# Altium schematic symbol library kmilo17pet-NSC_MiscPower.SchLib: 1552 symbols (part 19 of 43)
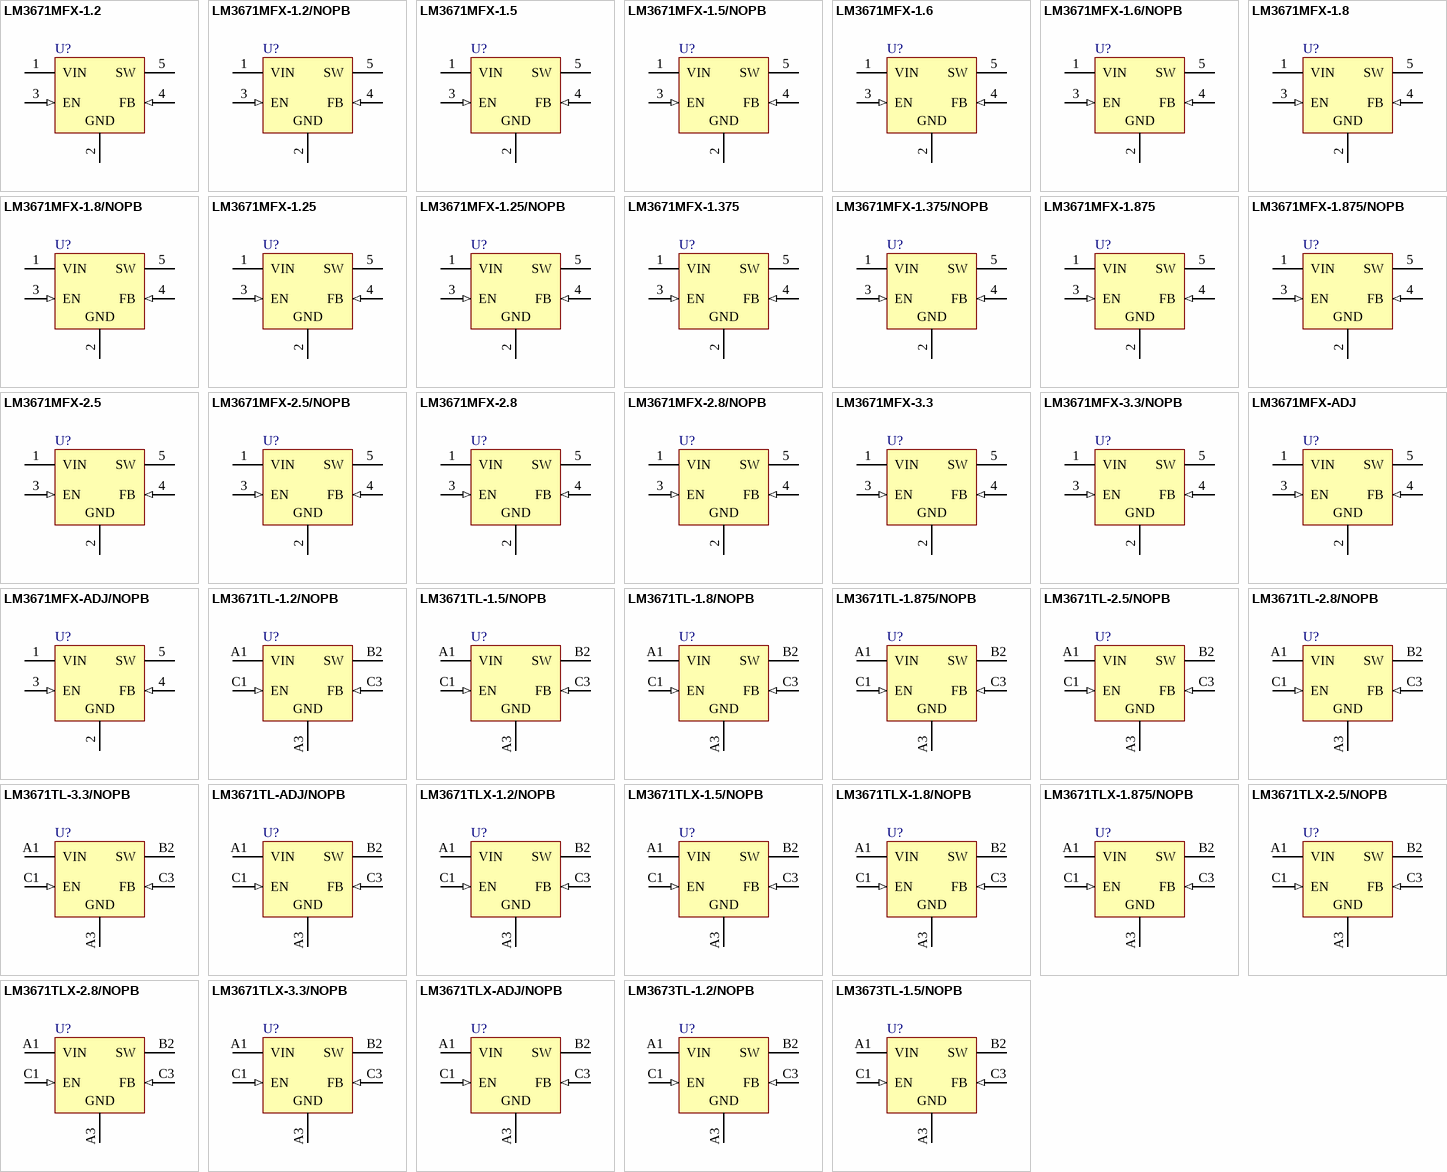
[diagram p75: symbols LM3671MFX-1.2 to LM3673TL-1.5/NOPB]

## LM3671TLX-2.5/NOPB
designator U?
2MHz, 600mA Step-Down DC-DC Converter, 5-pin Micro SMD, Pb-Free; PartNumber: LM3671TLX-2.5/NOPB; Manufacturer: National Semiconductor; PackageTopMarking: XV*I L; PowerWise: Y; CompType: MiscPower; DatasheetVersion: Nov-2007; PackageVersion: revC, Feb-2005; PackageReference: TLA05CBA; PackageDescription: Thin Micro SMD, 5 Bump (Large), 0.5mm Pitch; RoHS: Y; PinCount: 5; High-Reliability: Y; ComponentLink1Description: Manufacturer URL; ComponentLink1URL: http://www.national.com/; ComponentLink2Description: LM3671 Datasheet; ComponentLink2URL: http://www.national.com/ds/LM/LM3671.pdf; ComponentLink3Description: LM3671 Web Page; ComponentLink3URL: http://www.national.com/pf/LM/LM3671.html; ComponentLink4Description: TLA05CBA Package Page; ComponentLink4URL: http://www.national.com/packaging/folders/tla05cba.html
footprint TLA05CBA (Micro SMD, 5-Leads, Body 1.39x1.06mm, Pitch 0.5mm, NSC Recommended)
pins: A1 VIN (power), A3 GND (power), B2 SW (power), C1 EN (in), C3 FB (in)

## LM3671TLX-2.8/NOPB
designator U?
2MHz, 600mA Step-Down DC-DC Converter, 5-pin Micro SMD, Pb-Free; PartNumber: LM3671TLX-2.8/NOPB; Manufacturer: National Semiconductor; PackageTopMarking: XV*I K; PowerWise: Y; CompType: MiscPower; DatasheetVersion: Nov-2007; PackageVersion: revC, Feb-2005; PackageReference: TLA05CBA; PackageDescription: Thin Micro SMD, 5 Bump (Large), 0.5mm Pitch; RoHS: Y; PinCount: 5; High-Reliability: Y; ComponentLink1Description: Manufacturer URL; ComponentLink1URL: http://www.national.com/; ComponentLink2Description: LM3671 Datasheet; ComponentLink2URL: http://www.national.com/ds/LM/LM3671.pdf; ComponentLink3Description: LM3671 Web Page; ComponentLink3URL: http://www.national.com/pf/LM/LM3671.html; ComponentLink4Description: TLA05CBA Package Page; ComponentLink4URL: http://www.national.com/packaging/folders/tla05cba.html
footprint TLA05CBA (Micro SMD, 5-Leads, Body 1.39x1.06mm, Pitch 0.5mm, NSC Recommended)
pins: A1 VIN (power), A3 GND (power), B2 SW (power), C1 EN (in), C3 FB (in)

## LM3671TLX-3.3/NOPB
designator U?
2MHz, 600mA Step-Down DC-DC Converter, 5-pin Micro SMD, Pb-Free; PartNumber: LM3671TLX-3.3/NOPB; Manufacturer: National Semiconductor; PackageTopMarking: XV*I J; PowerWise: Y; CompType: MiscPower; DatasheetVersion: Nov-2007; PackageVersion: revC, Feb-2005; PackageReference: TLA05CBA; PackageDescription: Thin Micro SMD, 5 Bump (Large), 0.5mm Pitch; RoHS: Y; PinCount: 5; High-Reliability: Y; ComponentLink1Description: Manufacturer URL; ComponentLink1URL: http://www.national.com/; ComponentLink2Description: LM3671 Datasheet; ComponentLink2URL: http://www.national.com/ds/LM/LM3671.pdf; ComponentLink3Description: LM3671 Web Page; ComponentLink3URL: http://www.national.com/pf/LM/LM3671.html; ComponentLink4Description: TLA05CBA Package Page; ComponentLink4URL: http://www.national.com/packaging/folders/tla05cba.html
footprint TLA05CBA (Micro SMD, 5-Leads, Body 1.39x1.06mm, Pitch 0.5mm, NSC Recommended)
pins: A1 VIN (power), A3 GND (power), B2 SW (power), C1 EN (in), C3 FB (in)

## LM3671TLX-ADJ/NOPB
designator U?
2MHz, 600mA Step-Down DC-DC Converter, 5-pin Micro SMD, Pb-Free; PartNumber: LM3671TLX-ADJ/NOPB; Manufacturer: National Semiconductor; PackageTopMarking: XV*I E; PowerWise: Y; CompType: MiscPower; DatasheetVersion: Nov-2007; PackageVersion: revC, Feb-2005; PackageReference: TLA05CBA; PackageDescription: Thin Micro SMD, 5 Bump (Large), 0.5mm Pitch; RoHS: Y; PinCount: 5; High-Reliability: Y; ComponentLink1Description: Manufacturer URL; ComponentLink1URL: http://www.national.com/; ComponentLink2Description: LM3671 Datasheet; ComponentLink2URL: http://www.national.com/ds/LM/LM3671.pdf; ComponentLink3Description: LM3671 Web Page; ComponentLink3URL: http://www.national.com/pf/LM/LM3671.html; ComponentLink4Description: TLA05CBA Package Page; ComponentLink4URL: http://www.national.com/packaging/folders/tla05cba.html
footprint TLA05CBA (Micro SMD, 5-Leads, Body 1.39x1.06mm, Pitch 0.5mm, NSC Recommended)
pins: A1 VIN (power), A3 GND (power), B2 SW (power), C1 EN (in), C3 FB (in)

## LM3673TL-1.2/NOPB
designator U?
2MHz, 350mA Step-Down DC-DC Converter, 5-pin Micro SMD, Pb-Free; PartNumber: LM3673TL-1.2/NOPB; Manufacturer: National Semiconductor; PackageTopMarking: XV*I 1; PowerWise: Y; CompType: MiscPower; DatasheetVersion: Nov-2006; PackageVersion: revC, Feb-2005; PackageReference: TLA05CBA; PackageDescription: Thin Micro SMD, 5 Bump (Large), 0.5mm Pitch; RoHS: Y; PinCount: 5; High-Reliability: Y; ComponentLink1Description: Manufacturer URL; ComponentLink1URL: http://www.national.com/; ComponentLink2Description: LM3673 Datasheet; ComponentLink2URL: http://www.national.com/ds/LM/LM3673.pdf; ComponentLink3Description: LM3673 Web Page; ComponentLink3URL: http://www.national.com/pf/LM/LM3673.html; ComponentLink4Description: TLA05CBA Package Page; ComponentLink4URL: http://www.national.com/packaging/folders/tla05cba.html
footprint TLA05CBA (Micro SMD, 5-Leads, Body 1.39x1.06mm, Pitch 0.5mm, NSC Recommended)
pins: A1 VIN (power), A3 GND (power), B2 SW (power), C1 EN (in), C3 FB (in)

## LM3673TL-1.5/NOPB
designator U?
2MHz, 350mA Step-Down DC-DC Converter, 5-pin Micro SMD, Pb-Free; PartNumber: LM3673TL-1.5/NOPB; Manufacturer: National Semiconductor; PackageTopMarking: XV*I H; PowerWise: Y; CompType: MiscPower; DatasheetVersion: Nov-2006; PackageVersion: revC, Feb-2005; PackageReference: TLA05CBA; PackageDescription: Thin Micro SMD, 5 Bump (Large), 0.5mm Pitch; RoHS: Y; PinCount: 5; High-Reliability: Y; ComponentLink1Description: Manufacturer URL; ComponentLink1URL: http://www.national.com/; ComponentLink2Description: LM3673 Datasheet; ComponentLink2URL: http://www.national.com/ds/LM/LM3673.pdf; ComponentLink3Description: LM3673 Web Page; ComponentLink3URL: http://www.national.com/pf/LM/LM3673.html; ComponentLink4Description: TLA05CBA Package Page; ComponentLink4URL: http://www.national.com/packaging/folders/tla05cba.html
footprint TLA05CBA (Micro SMD, 5-Leads, Body 1.39x1.06mm, Pitch 0.5mm, NSC Recommended)
pins: A1 VIN (power), A3 GND (power), B2 SW (power), C1 EN (in), C3 FB (in)

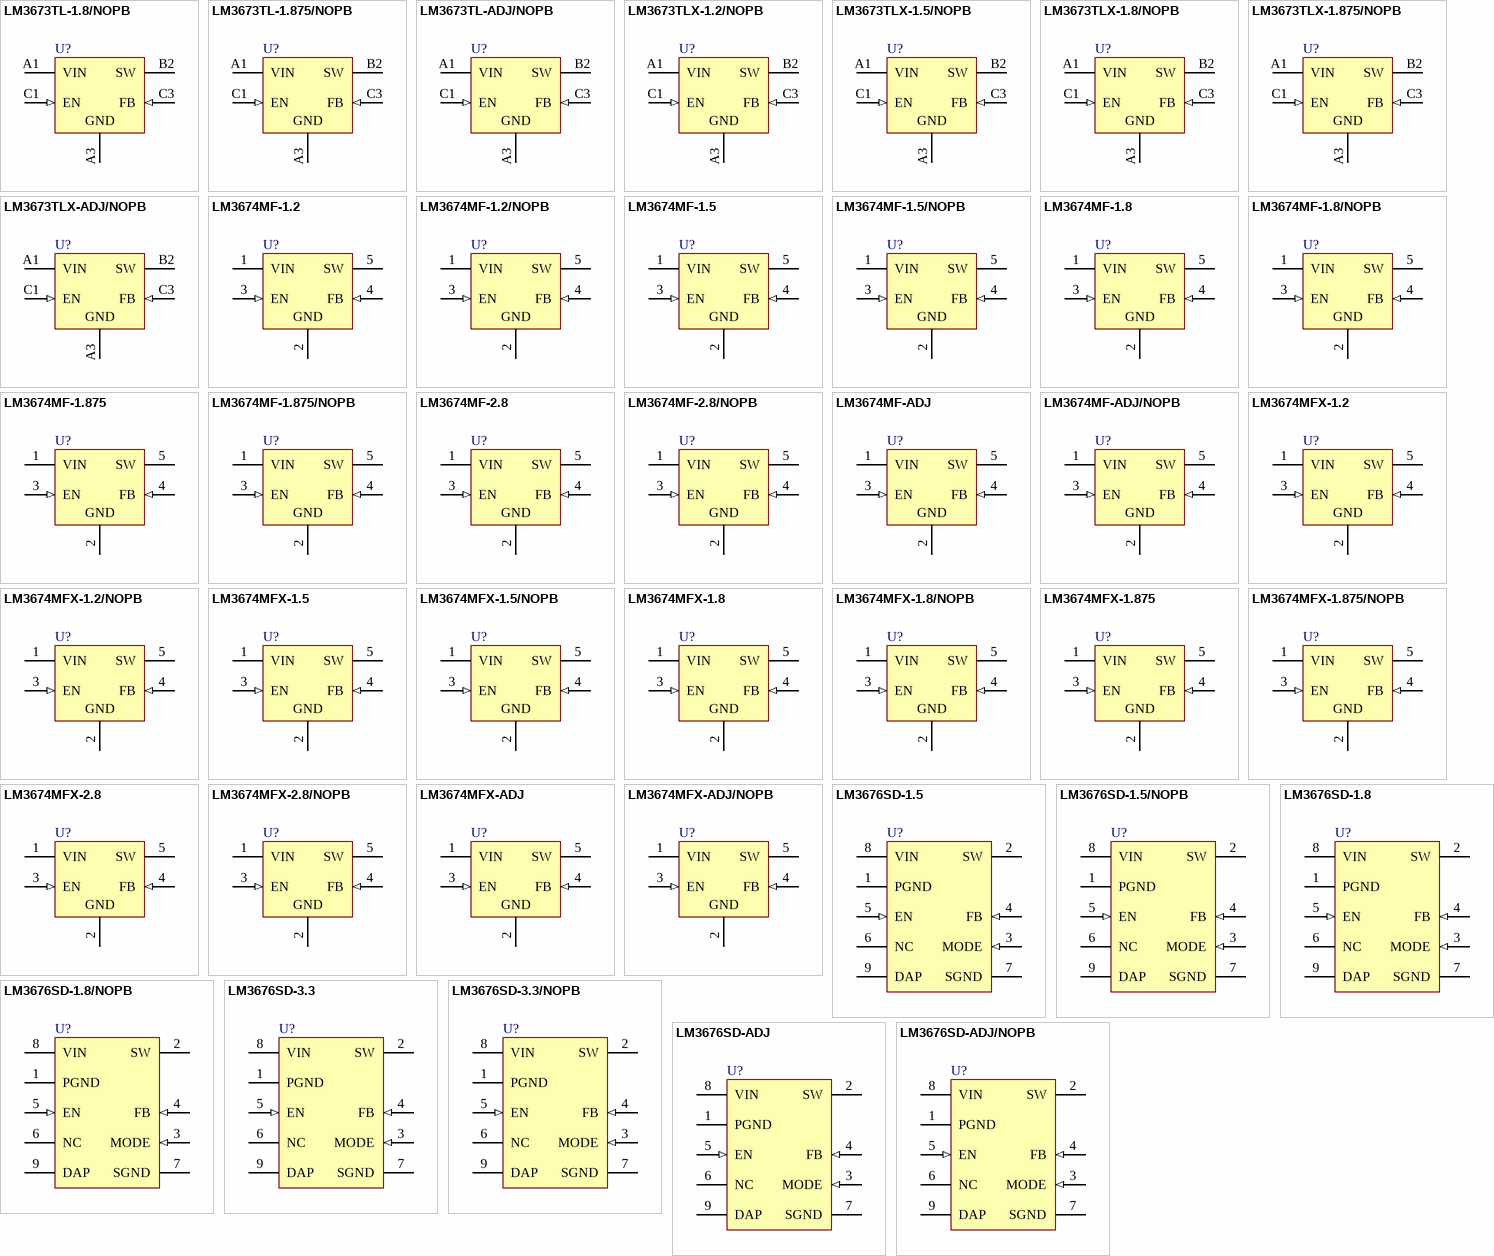
[diagram p21: symbols LM3673TL-1.8/NOPB to LM3676SD-ADJ/NOPB]

## LM3673TL-1.8/NOPB
designator U?
2MHz, 350mA Step-Down DC-DC Converter, 5-pin Micro SMD, Pb-Free; PartNumber: LM3673TL-1.8/NOPB; Manufacturer: National Semiconductor; PackageTopMarking: XV*I F; PowerWise: Y; CompType: MiscPower; DatasheetVersion: Nov-2006; PackageVersion: revC, Feb-2005; PackageReference: TLA05CBA; PackageDescription: Thin Micro SMD, 5 Bump (Large), 0.5mm Pitch; RoHS: Y; PinCount: 5; High-Reliability: Y; ComponentLink1Description: Manufacturer URL; ComponentLink1URL: http://www.national.com/; ComponentLink2Description: LM3673 Datasheet; ComponentLink2URL: http://www.national.com/ds/LM/LM3673.pdf; ComponentLink3Description: LM3673 Web Page; ComponentLink3URL: http://www.national.com/pf/LM/LM3673.html; ComponentLink4Description: TLA05CBA Package Page; ComponentLink4URL: http://www.national.com/packaging/folders/tla05cba.html
footprint TLA05CBA (Micro SMD, 5-Leads, Body 1.39x1.06mm, Pitch 0.5mm, NSC Recommended)
pins: A1 VIN (power), A3 GND (power), B2 SW (power), C1 EN (in), C3 FB (in)

## LM3673TL-1.875/NOPB
designator U?
2MHz, 350mA Step-Down DC-DC Converter, 5-pin Micro SMD, Pb-Free; PartNumber: LM3673TL-1.875/NOPB; Manufacturer: National Semiconductor; PackageTopMarking: XV*I 2; PowerWise: Y; CompType: MiscPower; DatasheetVersion: Nov-2006; PackageVersion: revC, Feb-2005; PackageReference: TLA05CBA; PackageDescription: Thin Micro SMD, 5 Bump (Large), 0.5mm Pitch; RoHS: Y; PinCount: 5; High-Reliability: Y; ComponentLink1Description: Manufacturer URL; ComponentLink1URL: http://www.national.com/; ComponentLink2Description: LM3673 Datasheet; ComponentLink2URL: http://www.national.com/ds/LM/LM3673.pdf; ComponentLink3Description: LM3673 Web Page; ComponentLink3URL: http://www.national.com/pf/LM/LM3673.html; ComponentLink4Description: TLA05CBA Package Page; ComponentLink4URL: http://www.national.com/packaging/folders/tla05cba.html
footprint TLA05CBA (Micro SMD, 5-Leads, Body 1.39x1.06mm, Pitch 0.5mm, NSC Recommended)
pins: A1 VIN (power), A3 GND (power), B2 SW (power), C1 EN (in), C3 FB (in)

## LM3673TL-ADJ/NOPB
designator U?
2MHz, 350mA Step-Down DC-DC Converter, 5-pin Micro SMD, Pb-Free; PartNumber: LM3673TL-ADJ/NOPB; Manufacturer: National Semiconductor; PackageTopMarking: XV*I R; PowerWise: Y; CompType: MiscPower; DatasheetVersion: Nov-2006; PackageVersion: revC, Feb-2005; PackageReference: TLA05CBA; PackageDescription: Thin Micro SMD, 5 Bump (Large), 0.5mm Pitch; RoHS: Y; PinCount: 5; High-Reliability: Y; ComponentLink1Description: Manufacturer URL; ComponentLink1URL: http://www.national.com/; ComponentLink2Description: LM3673 Datasheet; ComponentLink2URL: http://www.national.com/ds/LM/LM3673.pdf; ComponentLink3Description: LM3673 Web Page; ComponentLink3URL: http://www.national.com/pf/LM/LM3673.html; ComponentLink4Description: TLA05CBA Package Page; ComponentLink4URL: http://www.national.com/packaging/folders/tla05cba.html
footprint TLA05CBA (Micro SMD, 5-Leads, Body 1.39x1.06mm, Pitch 0.5mm, NSC Recommended)
pins: A1 VIN (power), A3 GND (power), B2 SW (power), C1 EN (in), C3 FB (in)

## LM3673TLX-1.2/NOPB
designator U?
2MHz, 350mA Step-Down DC-DC Converter, 5-pin Micro SMD, Pb-Free; PartNumber: LM3673TLX-1.2/NOPB; Manufacturer: National Semiconductor; PackageTopMarking: XV*I 1; PowerWise: Y; CompType: MiscPower; DatasheetVersion: Nov-2006; PackageVersion: revC, Feb-2005; PackageReference: TLA05CBA; PackageDescription: Thin Micro SMD, 5 Bump (Large), 0.5mm Pitch; RoHS: Y; PinCount: 5; High-Reliability: Y; ComponentLink1Description: Manufacturer URL; ComponentLink1URL: http://www.national.com/; ComponentLink2Description: LM3673 Datasheet; ComponentLink2URL: http://www.national.com/ds/LM/LM3673.pdf; ComponentLink3Description: LM3673 Web Page; ComponentLink3URL: http://www.national.com/pf/LM/LM3673.html; ComponentLink4Description: TLA05CBA Package Page; ComponentLink4URL: http://www.national.com/packaging/folders/tla05cba.html
footprint TLA05CBA (Micro SMD, 5-Leads, Body 1.39x1.06mm, Pitch 0.5mm, NSC Recommended)
pins: A1 VIN (power), A3 GND (power), B2 SW (power), C1 EN (in), C3 FB (in)

## LM3673TLX-1.5/NOPB
designator U?
2MHz, 350mA Step-Down DC-DC Converter, 5-pin Micro SMD, Pb-Free; PartNumber: LM3673TLX-1.5/NOPB; Manufacturer: National Semiconductor; PackageTopMarking: XV*I H; PowerWise: Y; CompType: MiscPower; DatasheetVersion: Nov-2006; PackageVersion: revC, Feb-2005; PackageReference: TLA05CBA; PackageDescription: Thin Micro SMD, 5 Bump (Large), 0.5mm Pitch; RoHS: Y; PinCount: 5; High-Reliability: Y; ComponentLink1Description: Manufacturer URL; ComponentLink1URL: http://www.national.com/; ComponentLink2Description: LM3673 Datasheet; ComponentLink2URL: http://www.national.com/ds/LM/LM3673.pdf; ComponentLink3Description: LM3673 Web Page; ComponentLink3URL: http://www.national.com/pf/LM/LM3673.html; ComponentLink4Description: TLA05CBA Package Page; ComponentLink4URL: http://www.national.com/packaging/folders/tla05cba.html
footprint TLA05CBA (Micro SMD, 5-Leads, Body 1.39x1.06mm, Pitch 0.5mm, NSC Recommended)
pins: A1 VIN (power), A3 GND (power), B2 SW (power), C1 EN (in), C3 FB (in)

## LM3673TLX-1.8/NOPB
designator U?
2MHz, 350mA Step-Down DC-DC Converter, 5-pin Micro SMD, Pb-Free; PartNumber: LM3673TLX-1.8/NOPB; Manufacturer: National Semiconductor; PackageTopMarking: XV*I F; PowerWise: Y; CompType: MiscPower; DatasheetVersion: Nov-2006; PackageVersion: revC, Feb-2005; PackageReference: TLA05CBA; PackageDescription: Thin Micro SMD, 5 Bump (Large), 0.5mm Pitch; RoHS: Y; PinCount: 5; High-Reliability: Y; ComponentLink1Description: Manufacturer URL; ComponentLink1URL: http://www.national.com/; ComponentLink2Description: LM3673 Datasheet; ComponentLink2URL: http://www.national.com/ds/LM/LM3673.pdf; ComponentLink3Description: LM3673 Web Page; ComponentLink3URL: http://www.national.com/pf/LM/LM3673.html; ComponentLink4Description: TLA05CBA Package Page; ComponentLink4URL: http://www.national.com/packaging/folders/tla05cba.html
footprint TLA05CBA (Micro SMD, 5-Leads, Body 1.39x1.06mm, Pitch 0.5mm, NSC Recommended)
pins: A1 VIN (power), A3 GND (power), B2 SW (power), C1 EN (in), C3 FB (in)

## LM3673TLX-1.875/NOPB
designator U?
2MHz, 350mA Step-Down DC-DC Converter, 5-pin Micro SMD, Pb-Free; PartNumber: LM3673TLX-1.875/NOPB; Manufacturer: National Semiconductor; PackageTopMarking: XV*I 2; PowerWise: Y; CompType: MiscPower; DatasheetVersion: Nov-2006; PackageVersion: revC, Feb-2005; PackageReference: TLA05CBA; PackageDescription: Thin Micro SMD, 5 Bump (Large), 0.5mm Pitch; RoHS: Y; PinCount: 5; High-Reliability: Y; ComponentLink1Description: Manufacturer URL; ComponentLink1URL: http://www.national.com/; ComponentLink2Description: LM3673 Datasheet; ComponentLink2URL: http://www.national.com/ds/LM/LM3673.pdf; ComponentLink3Description: LM3673 Web Page; ComponentLink3URL: http://www.national.com/pf/LM/LM3673.html; ComponentLink4Description: TLA05CBA Package Page; ComponentLink4URL: http://www.national.com/packaging/folders/tla05cba.html
footprint TLA05CBA (Micro SMD, 5-Leads, Body 1.39x1.06mm, Pitch 0.5mm, NSC Recommended)
pins: A1 VIN (power), A3 GND (power), B2 SW (power), C1 EN (in), C3 FB (in)

## LM3673TLX-ADJ/NOPB
designator U?
2MHz, 350mA Step-Down DC-DC Converter, 5-pin Micro SMD, Pb-Free; PartNumber: LM3673TLX-ADJ/NOPB; Manufacturer: National Semiconductor; PackageTopMarking: XV*I R; PowerWise: Y; CompType: MiscPower; DatasheetVersion: Nov-2006; PackageVersion: revC, Feb-2005; PackageReference: TLA05CBA; PackageDescription: Thin Micro SMD, 5 Bump (Large), 0.5mm Pitch; RoHS: Y; PinCount: 5; High-Reliability: Y; ComponentLink1Description: Manufacturer URL; ComponentLink1URL: http://www.national.com/; ComponentLink2Description: LM3673 Datasheet; ComponentLink2URL: http://www.national.com/ds/LM/LM3673.pdf; ComponentLink3Description: LM3673 Web Page; ComponentLink3URL: http://www.national.com/pf/LM/LM3673.html; ComponentLink4Description: TLA05CBA Package Page; ComponentLink4URL: http://www.national.com/packaging/folders/tla05cba.html
footprint TLA05CBA (Micro SMD, 5-Leads, Body 1.39x1.06mm, Pitch 0.5mm, NSC Recommended)
pins: A1 VIN (power), A3 GND (power), B2 SW (power), C1 EN (in), C3 FB (in)

## LM3674MF-1.2
designator U?
2MHz, 600mA Step-Down DC-DC Converter, 5-pin SOT-23; PartNumber: LM3674MF-1.2; Manufacturer: National Semiconductor; PackageTopMarking: SLRB*XTT; PowerWise: Y; CompType: MiscPower; DatasheetVersion: Sep-2006; PackageVersion: revD, Aug-2008; PackageReference: MF05A; PackageDescription: Molded SOT-23, .115 x .063 x .040 in Body, 5 Lead, .0375 in Pitch; RoHS: N; PinCount: 5; High-Reliability: Y; ComponentLink1Description: Manufacturer URL; ComponentLink1URL: http://www.national.com/; ComponentLink2Description: LM3674 Datasheet; ComponentLink2URL: http://www.national.com/ds/LM/LM3674.pdf; ComponentLink3Description: LM3674 Web Page; ComponentLink3URL: http://www.national.com/pf/LM/LM3674.html; ComponentLink4Description: MF05A Package Page; ComponentLink4URL: http://www.national.com/packaging/folders/mf05a.html
footprint MF05A_N (SOT23, 5-Leads, Body 2.9x1.6mm, Pitch 0.95mm, Lead Span 2.8mm, IPC Medium Density)
footprint MF05A_L (SOT23, 5-Leads, Body 2.9x1.6mm, Pitch 0.95mm, Lead Span 2.8mm, IPC High Density)
footprint MF05A_M (SOT23, 5-Leads, Body 2.9x1.6mm, Pitch 0.95mm, Lead Span 2.8mm, IPC Low Density)
pins: 1 VIN (power), 2 GND (power), 3 EN (in), 4 FB (in), 5 SW (power)

## LM3674MF-1.2/NOPB
designator U?
2MHz, 600mA Step-Down DC-DC Converter, 5-pin SOT-23, Pb-Free; PartNumber: LM3674MF-1.2/NOPB; Manufacturer: National Semiconductor; PackageTopMarking: SLRB*XTT; PowerWise: Y; CompType: MiscPower; DatasheetVersion: Sep-2006; PackageVersion: revD, Aug-2008; PackageReference: MF05A; PackageDescription: Molded SOT-23, .115 x .063 x .040 in Body, 5 Lead, .0375 in Pitch; RoHS: Y; PinCount: 5; High-Reliability: Y; ComponentLink1Description: Manufacturer URL; ComponentLink1URL: http://www.national.com/; ComponentLink2Description: LM3674 Datasheet; ComponentLink2URL: http://www.national.com/ds/LM/LM3674.pdf; ComponentLink3Description: LM3674 Web Page; ComponentLink3URL: http://www.national.com/pf/LM/LM3674.html; ComponentLink4Description: MF05A Package Page; ComponentLink4URL: http://www.national.com/packaging/folders/mf05a.html
footprint MF05A_N (SOT23, 5-Leads, Body 2.9x1.6mm, Pitch 0.95mm, Lead Span 2.8mm, IPC Medium Density)
footprint MF05A_L (SOT23, 5-Leads, Body 2.9x1.6mm, Pitch 0.95mm, Lead Span 2.8mm, IPC High Density)
footprint MF05A_M (SOT23, 5-Leads, Body 2.9x1.6mm, Pitch 0.95mm, Lead Span 2.8mm, IPC Low Density)
pins: 1 VIN (power), 2 GND (power), 3 EN (in), 4 FB (in), 5 SW (power)

## LM3674MF-1.5
designator U?
2MHz, 600mA Step-Down DC-DC Converter, 5-pin SOT-23; PartNumber: LM3674MF-1.5; Manufacturer: National Semiconductor; PackageTopMarking: SLSB*XTT; PowerWise: Y; CompType: MiscPower; DatasheetVersion: Sep-2006; PackageVersion: revD, Aug-2008; PackageReference: MF05A; PackageDescription: Molded SOT-23, .115 x .063 x .040 in Body, 5 Lead, .0375 in Pitch; RoHS: N; PinCount: 5; High-Reliability: Y; ComponentLink1Description: Manufacturer URL; ComponentLink1URL: http://www.national.com/; ComponentLink2Description: LM3674 Datasheet; ComponentLink2URL: http://www.national.com/ds/LM/LM3674.pdf; ComponentLink3Description: LM3674 Web Page; ComponentLink3URL: http://www.national.com/pf/LM/LM3674.html; ComponentLink4Description: MF05A Package Page; ComponentLink4URL: http://www.national.com/packaging/folders/mf05a.html
footprint MF05A_N (SOT23, 5-Leads, Body 2.9x1.6mm, Pitch 0.95mm, Lead Span 2.8mm, IPC Medium Density)
footprint MF05A_L (SOT23, 5-Leads, Body 2.9x1.6mm, Pitch 0.95mm, Lead Span 2.8mm, IPC High Density)
footprint MF05A_M (SOT23, 5-Leads, Body 2.9x1.6mm, Pitch 0.95mm, Lead Span 2.8mm, IPC Low Density)
pins: 1 VIN (power), 2 GND (power), 3 EN (in), 4 FB (in), 5 SW (power)

## LM3674MF-1.5/NOPB
designator U?
2MHz, 600mA Step-Down DC-DC Converter, 5-pin SOT-23, Pb-Free; PartNumber: LM3674MF-1.5/NOPB; Manufacturer: National Semiconductor; PackageTopMarking: SLSB*XTT; PowerWise: Y; CompType: MiscPower; DatasheetVersion: Sep-2006; PackageVersion: revD, Aug-2008; PackageReference: MF05A; PackageDescription: Molded SOT-23, .115 x .063 x .040 in Body, 5 Lead, .0375 in Pitch; RoHS: Y; PinCount: 5; High-Reliability: Y; ComponentLink1Description: Manufacturer URL; ComponentLink1URL: http://www.national.com/; ComponentLink2Description: LM3674 Datasheet; ComponentLink2URL: http://www.national.com/ds/LM/LM3674.pdf; ComponentLink3Description: LM3674 Web Page; ComponentLink3URL: http://www.national.com/pf/LM/LM3674.html; ComponentLink4Description: MF05A Package Page; ComponentLink4URL: http://www.national.com/packaging/folders/mf05a.html
footprint MF05A_N (SOT23, 5-Leads, Body 2.9x1.6mm, Pitch 0.95mm, Lead Span 2.8mm, IPC Medium Density)
footprint MF05A_L (SOT23, 5-Leads, Body 2.9x1.6mm, Pitch 0.95mm, Lead Span 2.8mm, IPC High Density)
footprint MF05A_M (SOT23, 5-Leads, Body 2.9x1.6mm, Pitch 0.95mm, Lead Span 2.8mm, IPC Low Density)
pins: 1 VIN (power), 2 GND (power), 3 EN (in), 4 FB (in), 5 SW (power)

## LM3674MF-1.8
designator U?
2MHz, 600mA Step-Down DC-DC Converter, 5-pin SOT-23; PartNumber: LM3674MF-1.8; Manufacturer: National Semiconductor; PackageTopMarking: SLHB*XTT; PowerWise: Y; CompType: MiscPower; DatasheetVersion: Sep-2006; PackageVersion: revD, Aug-2008; PackageReference: MF05A; PackageDescription: Molded SOT-23, .115 x .063 x .040 in Body, 5 Lead, .0375 in Pitch; RoHS: N; PinCount: 5; High-Reliability: Y; ComponentLink1Description: Manufacturer URL; ComponentLink1URL: http://www.national.com/; ComponentLink2Description: LM3674 Datasheet; ComponentLink2URL: http://www.national.com/ds/LM/LM3674.pdf; ComponentLink3Description: LM3674 Web Page; ComponentLink3URL: http://www.national.com/pf/LM/LM3674.html; ComponentLink4Description: MF05A Package Page; ComponentLink4URL: http://www.national.com/packaging/folders/mf05a.html
footprint MF05A_N (SOT23, 5-Leads, Body 2.9x1.6mm, Pitch 0.95mm, Lead Span 2.8mm, IPC Medium Density)
footprint MF05A_L (SOT23, 5-Leads, Body 2.9x1.6mm, Pitch 0.95mm, Lead Span 2.8mm, IPC High Density)
footprint MF05A_M (SOT23, 5-Leads, Body 2.9x1.6mm, Pitch 0.95mm, Lead Span 2.8mm, IPC Low Density)
pins: 1 VIN (power), 2 GND (power), 3 EN (in), 4 FB (in), 5 SW (power)

## LM3674MF-1.8/NOPB
designator U?
2MHz, 600mA Step-Down DC-DC Converter, 5-pin SOT-23, Pb-Free; PartNumber: LM3674MF-1.8/NOPB; Manufacturer: National Semiconductor; PackageTopMarking: SLHB*XTT; PowerWise: Y; CompType: MiscPower; DatasheetVersion: Sep-2006; PackageVersion: revD, Aug-2008; PackageReference: MF05A; PackageDescription: Molded SOT-23, .115 x .063 x .040 in Body, 5 Lead, .0375 in Pitch; RoHS: Y; PinCount: 5; High-Reliability: Y; ComponentLink1Description: Manufacturer URL; ComponentLink1URL: http://www.national.com/; ComponentLink2Description: LM3674 Datasheet; ComponentLink2URL: http://www.national.com/ds/LM/LM3674.pdf; ComponentLink3Description: LM3674 Web Page; ComponentLink3URL: http://www.national.com/pf/LM/LM3674.html; ComponentLink4Description: MF05A Package Page; ComponentLink4URL: http://www.national.com/packaging/folders/mf05a.html
footprint MF05A_N (SOT23, 5-Leads, Body 2.9x1.6mm, Pitch 0.95mm, Lead Span 2.8mm, IPC Medium Density)
footprint MF05A_L (SOT23, 5-Leads, Body 2.9x1.6mm, Pitch 0.95mm, Lead Span 2.8mm, IPC High Density)
footprint MF05A_M (SOT23, 5-Leads, Body 2.9x1.6mm, Pitch 0.95mm, Lead Span 2.8mm, IPC Low Density)
pins: 1 VIN (power), 2 GND (power), 3 EN (in), 4 FB (in), 5 SW (power)

## LM3674MF-1.875
designator U?
2MHz, 600mA Step-Down DC-DC Converter, 5-pin SOT-23; PartNumber: LM3674MF-1.875; Manufacturer: National Semiconductor; PackageTopMarking: SNNB*XTT; PowerWise: Y; CompType: MiscPower; DatasheetVersion: Sep-2006; PackageVersion: revD, Aug-2008; PackageReference: MF05A; PackageDescription: Molded SOT-23, .115 x .063 x .040 in Body, 5 Lead, .0375 in Pitch; RoHS: N; PinCount: 5; High-Reliability: Y; ComponentLink1Description: Manufacturer URL; ComponentLink1URL: http://www.national.com/; ComponentLink2Description: LM3674 Datasheet; ComponentLink2URL: http://www.national.com/ds/LM/LM3674.pdf; ComponentLink3Description: LM3674 Web Page; ComponentLink3URL: http://www.national.com/pf/LM/LM3674.html; ComponentLink4Description: MF05A Package Page; ComponentLink4URL: http://www.national.com/packaging/folders/mf05a.html
footprint MF05A_N (SOT23, 5-Leads, Body 2.9x1.6mm, Pitch 0.95mm, Lead Span 2.8mm, IPC Medium Density)
footprint MF05A_L (SOT23, 5-Leads, Body 2.9x1.6mm, Pitch 0.95mm, Lead Span 2.8mm, IPC High Density)
footprint MF05A_M (SOT23, 5-Leads, Body 2.9x1.6mm, Pitch 0.95mm, Lead Span 2.8mm, IPC Low Density)
pins: 1 VIN (power), 2 GND (power), 3 EN (in), 4 FB (in), 5 SW (power)

## LM3674MF-1.875/NOPB
designator U?
2MHz, 600mA Step-Down DC-DC Converter, 5-pin SOT-23, Pb-Free; PartNumber: LM3674MF-1.875/NOPB; Manufacturer: National Semiconductor; PackageTopMarking: SNNB*XTT; PowerWise: Y; CompType: MiscPower; DatasheetVersion: Sep-2006; PackageVersion: revD, Aug-2008; PackageReference: MF05A; PackageDescription: Molded SOT-23, .115 x .063 x .040 in Body, 5 Lead, .0375 in Pitch; RoHS: Y; PinCount: 5; High-Reliability: Y; ComponentLink1Description: Manufacturer URL; ComponentLink1URL: http://www.national.com/; ComponentLink2Description: LM3674 Datasheet; ComponentLink2URL: http://www.national.com/ds/LM/LM3674.pdf; ComponentLink3Description: LM3674 Web Page; ComponentLink3URL: http://www.national.com/pf/LM/LM3674.html; ComponentLink4Description: MF05A Package Page; ComponentLink4URL: http://www.national.com/packaging/folders/mf05a.html
footprint MF05A_N (SOT23, 5-Leads, Body 2.9x1.6mm, Pitch 0.95mm, Lead Span 2.8mm, IPC Medium Density)
footprint MF05A_L (SOT23, 5-Leads, Body 2.9x1.6mm, Pitch 0.95mm, Lead Span 2.8mm, IPC High Density)
footprint MF05A_M (SOT23, 5-Leads, Body 2.9x1.6mm, Pitch 0.95mm, Lead Span 2.8mm, IPC Low Density)
pins: 1 VIN (power), 2 GND (power), 3 EN (in), 4 FB (in), 5 SW (power)

## LM3674MF-2.8
designator U?
2MHz, 600mA Step-Down DC-DC Converter, 5-pin SOT-23; PartNumber: LM3674MF-2.8; Manufacturer: National Semiconductor; PackageTopMarking: SLZB*XTT; PowerWise: Y; CompType: MiscPower; DatasheetVersion: Sep-2006; PackageVersion: revD, Aug-2008; PackageReference: MF05A; PackageDescription: Molded SOT-23, .115 x .063 x .040 in Body, 5 Lead, .0375 in Pitch; RoHS: N; PinCount: 5; High-Reliability: Y; ComponentLink1Description: Manufacturer URL; ComponentLink1URL: http://www.national.com/; ComponentLink2Description: LM3674 Datasheet; ComponentLink2URL: http://www.national.com/ds/LM/LM3674.pdf; ComponentLink3Description: LM3674 Web Page; ComponentLink3URL: http://www.national.com/pf/LM/LM3674.html; ComponentLink4Description: MF05A Package Page; ComponentLink4URL: http://www.national.com/packaging/folders/mf05a.html
footprint MF05A_N (SOT23, 5-Leads, Body 2.9x1.6mm, Pitch 0.95mm, Lead Span 2.8mm, IPC Medium Density)
footprint MF05A_L (SOT23, 5-Leads, Body 2.9x1.6mm, Pitch 0.95mm, Lead Span 2.8mm, IPC High Density)
footprint MF05A_M (SOT23, 5-Leads, Body 2.9x1.6mm, Pitch 0.95mm, Lead Span 2.8mm, IPC Low Density)
pins: 1 VIN (power), 2 GND (power), 3 EN (in), 4 FB (in), 5 SW (power)

## LM3674MF-2.8/NOPB
designator U?
2MHz, 600mA Step-Down DC-DC Converter, 5-pin SOT-23, Pb-Free; PartNumber: LM3674MF-2.8/NOPB; Manufacturer: National Semiconductor; PackageTopMarking: SLZB*XTT; PowerWise: Y; CompType: MiscPower; DatasheetVersion: Sep-2006; PackageVersion: revD, Aug-2008; PackageReference: MF05A; PackageDescription: Molded SOT-23, .115 x .063 x .040 in Body, 5 Lead, .0375 in Pitch; RoHS: Y; PinCount: 5; High-Reliability: Y; ComponentLink1Description: Manufacturer URL; ComponentLink1URL: http://www.national.com/; ComponentLink2Description: LM3674 Datasheet; ComponentLink2URL: http://www.national.com/ds/LM/LM3674.pdf; ComponentLink3Description: LM3674 Web Page; ComponentLink3URL: http://www.national.com/pf/LM/LM3674.html; ComponentLink4Description: MF05A Package Page; ComponentLink4URL: http://www.national.com/packaging/folders/mf05a.html
footprint MF05A_N (SOT23, 5-Leads, Body 2.9x1.6mm, Pitch 0.95mm, Lead Span 2.8mm, IPC Medium Density)
footprint MF05A_L (SOT23, 5-Leads, Body 2.9x1.6mm, Pitch 0.95mm, Lead Span 2.8mm, IPC High Density)
footprint MF05A_M (SOT23, 5-Leads, Body 2.9x1.6mm, Pitch 0.95mm, Lead Span 2.8mm, IPC Low Density)
pins: 1 VIN (power), 2 GND (power), 3 EN (in), 4 FB (in), 5 SW (power)

## LM3674MF-ADJ
designator U?
2MHz, 600mA Step-Down DC-DC Converter, 5-pin SOT-23; PartNumber: LM3674MF-ADJ; Manufacturer: National Semiconductor; PackageTopMarking: SLTB*XTT; PowerWise: Y; CompType: MiscPower; DatasheetVersion: Sep-2006; PackageVersion: revD, Aug-2008; PackageReference: MF05A; PackageDescription: Molded SOT-23, .115 x .063 x .040 in Body, 5 Lead, .0375 in Pitch; RoHS: N; PinCount: 5; High-Reliability: Y; ComponentLink1Description: Manufacturer URL; ComponentLink1URL: http://www.national.com/; ComponentLink2Description: LM3674 Datasheet; ComponentLink2URL: http://www.national.com/ds/LM/LM3674.pdf; ComponentLink3Description: LM3674 Web Page; ComponentLink3URL: http://www.national.com/pf/LM/LM3674.html; ComponentLink4Description: MF05A Package Page; ComponentLink4URL: http://www.national.com/packaging/folders/mf05a.html
footprint MF05A_N (SOT23, 5-Leads, Body 2.9x1.6mm, Pitch 0.95mm, Lead Span 2.8mm, IPC Medium Density)
footprint MF05A_L (SOT23, 5-Leads, Body 2.9x1.6mm, Pitch 0.95mm, Lead Span 2.8mm, IPC High Density)
footprint MF05A_M (SOT23, 5-Leads, Body 2.9x1.6mm, Pitch 0.95mm, Lead Span 2.8mm, IPC Low Density)
pins: 1 VIN (power), 2 GND (power), 3 EN (in), 4 FB (in), 5 SW (power)

## LM3674MF-ADJ/NOPB
designator U?
2MHz, 600mA Step-Down DC-DC Converter, 5-pin SOT-23, Pb-Free; PartNumber: LM3674MF-ADJ/NOPB; Manufacturer: National Semiconductor; PackageTopMarking: SLTB*XTT; PowerWise: Y; CompType: MiscPower; DatasheetVersion: Sep-2006; PackageVersion: revD, Aug-2008; PackageReference: MF05A; PackageDescription: Molded SOT-23, .115 x .063 x .040 in Body, 5 Lead, .0375 in Pitch; RoHS: Y; PinCount: 5; High-Reliability: Y; ComponentLink1Description: Manufacturer URL; ComponentLink1URL: http://www.national.com/; ComponentLink2Description: LM3674 Datasheet; ComponentLink2URL: http://www.national.com/ds/LM/LM3674.pdf; ComponentLink3Description: LM3674 Web Page; ComponentLink3URL: http://www.national.com/pf/LM/LM3674.html; ComponentLink4Description: MF05A Package Page; ComponentLink4URL: http://www.national.com/packaging/folders/mf05a.html
footprint MF05A_N (SOT23, 5-Leads, Body 2.9x1.6mm, Pitch 0.95mm, Lead Span 2.8mm, IPC Medium Density)
footprint MF05A_L (SOT23, 5-Leads, Body 2.9x1.6mm, Pitch 0.95mm, Lead Span 2.8mm, IPC High Density)
footprint MF05A_M (SOT23, 5-Leads, Body 2.9x1.6mm, Pitch 0.95mm, Lead Span 2.8mm, IPC Low Density)
pins: 1 VIN (power), 2 GND (power), 3 EN (in), 4 FB (in), 5 SW (power)

## LM3674MFX-1.2
designator U?
2MHz, 600mA Step-Down DC-DC Converter, 5-pin SOT-23; PartNumber: LM3674MFX-1.2; Manufacturer: National Semiconductor; PackageTopMarking: SLRB*XTT; PowerWise: Y; CompType: MiscPower; DatasheetVersion: Sep-2006; PackageVersion: revD, Aug-2008; PackageReference: MF05A; PackageDescription: Molded SOT-23, .115 x .063 x .040 in Body, 5 Lead, .0375 in Pitch; RoHS: N; PinCount: 5; High-Reliability: Y; ComponentLink1Description: Manufacturer URL; ComponentLink1URL: http://www.national.com/; ComponentLink2Description: LM3674 Datasheet; ComponentLink2URL: http://www.national.com/ds/LM/LM3674.pdf; ComponentLink3Description: LM3674 Web Page; ComponentLink3URL: http://www.national.com/pf/LM/LM3674.html; ComponentLink4Description: MF05A Package Page; ComponentLink4URL: http://www.national.com/packaging/folders/mf05a.html
footprint MF05A_N (SOT23, 5-Leads, Body 2.9x1.6mm, Pitch 0.95mm, Lead Span 2.8mm, IPC Medium Density)
footprint MF05A_L (SOT23, 5-Leads, Body 2.9x1.6mm, Pitch 0.95mm, Lead Span 2.8mm, IPC High Density)
footprint MF05A_M (SOT23, 5-Leads, Body 2.9x1.6mm, Pitch 0.95mm, Lead Span 2.8mm, IPC Low Density)
pins: 1 VIN (power), 2 GND (power), 3 EN (in), 4 FB (in), 5 SW (power)

## LM3674MFX-1.2/NOPB
designator U?
2MHz, 600mA Step-Down DC-DC Converter, 5-pin SOT-23, Pb-Free; PartNumber: LM3674MFX-1.2/NOPB; Manufacturer: National Semiconductor; PackageTopMarking: SLRB*XTT; PowerWise: Y; CompType: MiscPower; DatasheetVersion: Sep-2006; PackageVersion: revD, Aug-2008; PackageReference: MF05A; PackageDescription: Molded SOT-23, .115 x .063 x .040 in Body, 5 Lead, .0375 in Pitch; RoHS: Y; PinCount: 5; High-Reliability: Y; ComponentLink1Description: Manufacturer URL; ComponentLink1URL: http://www.national.com/; ComponentLink2Description: LM3674 Datasheet; ComponentLink2URL: http://www.national.com/ds/LM/LM3674.pdf; ComponentLink3Description: LM3674 Web Page; ComponentLink3URL: http://www.national.com/pf/LM/LM3674.html; ComponentLink4Description: MF05A Package Page; ComponentLink4URL: http://www.national.com/packaging/folders/mf05a.html
footprint MF05A_N (SOT23, 5-Leads, Body 2.9x1.6mm, Pitch 0.95mm, Lead Span 2.8mm, IPC Medium Density)
footprint MF05A_L (SOT23, 5-Leads, Body 2.9x1.6mm, Pitch 0.95mm, Lead Span 2.8mm, IPC High Density)
footprint MF05A_M (SOT23, 5-Leads, Body 2.9x1.6mm, Pitch 0.95mm, Lead Span 2.8mm, IPC Low Density)
pins: 1 VIN (power), 2 GND (power), 3 EN (in), 4 FB (in), 5 SW (power)

## LM3674MFX-1.5
designator U?
2MHz, 600mA Step-Down DC-DC Converter, 5-pin SOT-23; PartNumber: LM3674MFX-1.5; Manufacturer: National Semiconductor; PackageTopMarking: SLSB*XTT; PowerWise: Y; CompType: MiscPower; DatasheetVersion: Sep-2006; PackageVersion: revD, Aug-2008; PackageReference: MF05A; PackageDescription: Molded SOT-23, .115 x .063 x .040 in Body, 5 Lead, .0375 in Pitch; RoHS: N; PinCount: 5; High-Reliability: Y; ComponentLink1Description: Manufacturer URL; ComponentLink1URL: http://www.national.com/; ComponentLink2Description: LM3674 Datasheet; ComponentLink2URL: http://www.national.com/ds/LM/LM3674.pdf; ComponentLink3Description: LM3674 Web Page; ComponentLink3URL: http://www.national.com/pf/LM/LM3674.html; ComponentLink4Description: MF05A Package Page; ComponentLink4URL: http://www.national.com/packaging/folders/mf05a.html
footprint MF05A_N (SOT23, 5-Leads, Body 2.9x1.6mm, Pitch 0.95mm, Lead Span 2.8mm, IPC Medium Density)
footprint MF05A_L (SOT23, 5-Leads, Body 2.9x1.6mm, Pitch 0.95mm, Lead Span 2.8mm, IPC High Density)
footprint MF05A_M (SOT23, 5-Leads, Body 2.9x1.6mm, Pitch 0.95mm, Lead Span 2.8mm, IPC Low Density)
pins: 1 VIN (power), 2 GND (power), 3 EN (in), 4 FB (in), 5 SW (power)

## LM3674MFX-1.5/NOPB
designator U?
2MHz, 600mA Step-Down DC-DC Converter, 5-pin SOT-23, Pb-Free; PartNumber: LM3674MFX-1.5/NOPB; Manufacturer: National Semiconductor; PackageTopMarking: SLSB*XTT; PowerWise: Y; CompType: MiscPower; DatasheetVersion: Sep-2006; PackageVersion: revD, Aug-2008; PackageReference: MF05A; PackageDescription: Molded SOT-23, .115 x .063 x .040 in Body, 5 Lead, .0375 in Pitch; RoHS: Y; PinCount: 5; High-Reliability: Y; ComponentLink1Description: Manufacturer URL; ComponentLink1URL: http://www.national.com/; ComponentLink2Description: LM3674 Datasheet; ComponentLink2URL: http://www.national.com/ds/LM/LM3674.pdf; ComponentLink3Description: LM3674 Web Page; ComponentLink3URL: http://www.national.com/pf/LM/LM3674.html; ComponentLink4Description: MF05A Package Page; ComponentLink4URL: http://www.national.com/packaging/folders/mf05a.html
footprint MF05A_N (SOT23, 5-Leads, Body 2.9x1.6mm, Pitch 0.95mm, Lead Span 2.8mm, IPC Medium Density)
footprint MF05A_L (SOT23, 5-Leads, Body 2.9x1.6mm, Pitch 0.95mm, Lead Span 2.8mm, IPC High Density)
footprint MF05A_M (SOT23, 5-Leads, Body 2.9x1.6mm, Pitch 0.95mm, Lead Span 2.8mm, IPC Low Density)
pins: 1 VIN (power), 2 GND (power), 3 EN (in), 4 FB (in), 5 SW (power)

## LM3674MFX-1.8
designator U?
2MHz, 600mA Step-Down DC-DC Converter, 5-pin SOT-23; PartNumber: LM3674MFX-1.8; Manufacturer: National Semiconductor; PackageTopMarking: SLHB*XTT; PowerWise: Y; CompType: MiscPower; DatasheetVersion: Sep-2006; PackageVersion: revD, Aug-2008; PackageReference: MF05A; PackageDescription: Molded SOT-23, .115 x .063 x .040 in Body, 5 Lead, .0375 in Pitch; RoHS: N; PinCount: 5; High-Reliability: Y; ComponentLink1Description: Manufacturer URL; ComponentLink1URL: http://www.national.com/; ComponentLink2Description: LM3674 Datasheet; ComponentLink2URL: http://www.national.com/ds/LM/LM3674.pdf; ComponentLink3Description: LM3674 Web Page; ComponentLink3URL: http://www.national.com/pf/LM/LM3674.html; ComponentLink4Description: MF05A Package Page; ComponentLink4URL: http://www.national.com/packaging/folders/mf05a.html
footprint MF05A_N (SOT23, 5-Leads, Body 2.9x1.6mm, Pitch 0.95mm, Lead Span 2.8mm, IPC Medium Density)
footprint MF05A_L (SOT23, 5-Leads, Body 2.9x1.6mm, Pitch 0.95mm, Lead Span 2.8mm, IPC High Density)
footprint MF05A_M (SOT23, 5-Leads, Body 2.9x1.6mm, Pitch 0.95mm, Lead Span 2.8mm, IPC Low Density)
pins: 1 VIN (power), 2 GND (power), 3 EN (in), 4 FB (in), 5 SW (power)

## LM3674MFX-1.8/NOPB
designator U?
2MHz, 600mA Step-Down DC-DC Converter, 5-pin SOT-23, Pb-Free; PartNumber: LM3674MFX-1.8/NOPB; Manufacturer: National Semiconductor; PackageTopMarking: SLHB*XTT; PowerWise: Y; CompType: MiscPower; DatasheetVersion: Sep-2006; PackageVersion: revD, Aug-2008; PackageReference: MF05A; PackageDescription: Molded SOT-23, .115 x .063 x .040 in Body, 5 Lead, .0375 in Pitch; RoHS: Y; PinCount: 5; High-Reliability: Y; ComponentLink1Description: Manufacturer URL; ComponentLink1URL: http://www.national.com/; ComponentLink2Description: LM3674 Datasheet; ComponentLink2URL: http://www.national.com/ds/LM/LM3674.pdf; ComponentLink3Description: LM3674 Web Page; ComponentLink3URL: http://www.national.com/pf/LM/LM3674.html; ComponentLink4Description: MF05A Package Page; ComponentLink4URL: http://www.national.com/packaging/folders/mf05a.html
footprint MF05A_N (SOT23, 5-Leads, Body 2.9x1.6mm, Pitch 0.95mm, Lead Span 2.8mm, IPC Medium Density)
footprint MF05A_L (SOT23, 5-Leads, Body 2.9x1.6mm, Pitch 0.95mm, Lead Span 2.8mm, IPC High Density)
footprint MF05A_M (SOT23, 5-Leads, Body 2.9x1.6mm, Pitch 0.95mm, Lead Span 2.8mm, IPC Low Density)
pins: 1 VIN (power), 2 GND (power), 3 EN (in), 4 FB (in), 5 SW (power)

## LM3674MFX-1.875
designator U?
2MHz, 600mA Step-Down DC-DC Converter, 5-pin SOT-23; PartNumber: LM3674MFX-1.875; Manufacturer: National Semiconductor; PackageTopMarking: SNNB*XTT; PowerWise: Y; CompType: MiscPower; DatasheetVersion: Sep-2006; PackageVersion: revD, Aug-2008; PackageReference: MF05A; PackageDescription: Molded SOT-23, .115 x .063 x .040 in Body, 5 Lead, .0375 in Pitch; RoHS: N; PinCount: 5; High-Reliability: Y; ComponentLink1Description: Manufacturer URL; ComponentLink1URL: http://www.national.com/; ComponentLink2Description: LM3674 Datasheet; ComponentLink2URL: http://www.national.com/ds/LM/LM3674.pdf; ComponentLink3Description: LM3674 Web Page; ComponentLink3URL: http://www.national.com/pf/LM/LM3674.html; ComponentLink4Description: MF05A Package Page; ComponentLink4URL: http://www.national.com/packaging/folders/mf05a.html
footprint MF05A_N (SOT23, 5-Leads, Body 2.9x1.6mm, Pitch 0.95mm, Lead Span 2.8mm, IPC Medium Density)
footprint MF05A_L (SOT23, 5-Leads, Body 2.9x1.6mm, Pitch 0.95mm, Lead Span 2.8mm, IPC High Density)
footprint MF05A_M (SOT23, 5-Leads, Body 2.9x1.6mm, Pitch 0.95mm, Lead Span 2.8mm, IPC Low Density)
pins: 1 VIN (power), 2 GND (power), 3 EN (in), 4 FB (in), 5 SW (power)

## LM3674MFX-1.875/NOPB
designator U?
2MHz, 600mA Step-Down DC-DC Converter, 5-pin SOT-23, Pb-Free; PartNumber: LM3674MFX-1.875/NOPB; Manufacturer: National Semiconductor; PackageTopMarking: SNNB*XTT; PowerWise: Y; CompType: MiscPower; DatasheetVersion: Sep-2006; PackageVersion: revD, Aug-2008; PackageReference: MF05A; PackageDescription: Molded SOT-23, .115 x .063 x .040 in Body, 5 Lead, .0375 in Pitch; RoHS: Y; PinCount: 5; High-Reliability: Y; ComponentLink1Description: Manufacturer URL; ComponentLink1URL: http://www.national.com/; ComponentLink2Description: LM3674 Datasheet; ComponentLink2URL: http://www.national.com/ds/LM/LM3674.pdf; ComponentLink3Description: LM3674 Web Page; ComponentLink3URL: http://www.national.com/pf/LM/LM3674.html; ComponentLink4Description: MF05A Package Page; ComponentLink4URL: http://www.national.com/packaging/folders/mf05a.html
footprint MF05A_N (SOT23, 5-Leads, Body 2.9x1.6mm, Pitch 0.95mm, Lead Span 2.8mm, IPC Medium Density)
footprint MF05A_L (SOT23, 5-Leads, Body 2.9x1.6mm, Pitch 0.95mm, Lead Span 2.8mm, IPC High Density)
footprint MF05A_M (SOT23, 5-Leads, Body 2.9x1.6mm, Pitch 0.95mm, Lead Span 2.8mm, IPC Low Density)
pins: 1 VIN (power), 2 GND (power), 3 EN (in), 4 FB (in), 5 SW (power)

## LM3674MFX-2.8
designator U?
2MHz, 600mA Step-Down DC-DC Converter, 5-pin SOT-23; PartNumber: LM3674MFX-2.8; Manufacturer: National Semiconductor; PackageTopMarking: SLZB*XTT; PowerWise: Y; CompType: MiscPower; DatasheetVersion: Sep-2006; PackageVersion: revD, Aug-2008; PackageReference: MF05A; PackageDescription: Molded SOT-23, .115 x .063 x .040 in Body, 5 Lead, .0375 in Pitch; RoHS: N; PinCount: 5; High-Reliability: Y; ComponentLink1Description: Manufacturer URL; ComponentLink1URL: http://www.national.com/; ComponentLink2Description: LM3674 Datasheet; ComponentLink2URL: http://www.national.com/ds/LM/LM3674.pdf; ComponentLink3Description: LM3674 Web Page; ComponentLink3URL: http://www.national.com/pf/LM/LM3674.html; ComponentLink4Description: MF05A Package Page; ComponentLink4URL: http://www.national.com/packaging/folders/mf05a.html
footprint MF05A_N (SOT23, 5-Leads, Body 2.9x1.6mm, Pitch 0.95mm, Lead Span 2.8mm, IPC Medium Density)
footprint MF05A_L (SOT23, 5-Leads, Body 2.9x1.6mm, Pitch 0.95mm, Lead Span 2.8mm, IPC High Density)
footprint MF05A_M (SOT23, 5-Leads, Body 2.9x1.6mm, Pitch 0.95mm, Lead Span 2.8mm, IPC Low Density)
pins: 1 VIN (power), 2 GND (power), 3 EN (in), 4 FB (in), 5 SW (power)

## LM3674MFX-2.8/NOPB
designator U?
2MHz, 600mA Step-Down DC-DC Converter, 5-pin SOT-23, Pb-Free; PartNumber: LM3674MFX-2.8/NOPB; Manufacturer: National Semiconductor; PackageTopMarking: SLZB*XTT; PowerWise: Y; CompType: MiscPower; DatasheetVersion: Sep-2006; PackageVersion: revD, Aug-2008; PackageReference: MF05A; PackageDescription: Molded SOT-23, .115 x .063 x .040 in Body, 5 Lead, .0375 in Pitch; RoHS: Y; PinCount: 5; High-Reliability: Y; ComponentLink1Description: Manufacturer URL; ComponentLink1URL: http://www.national.com/; ComponentLink2Description: LM3674 Datasheet; ComponentLink2URL: http://www.national.com/ds/LM/LM3674.pdf; ComponentLink3Description: LM3674 Web Page; ComponentLink3URL: http://www.national.com/pf/LM/LM3674.html; ComponentLink4Description: MF05A Package Page; ComponentLink4URL: http://www.national.com/packaging/folders/mf05a.html
footprint MF05A_N (SOT23, 5-Leads, Body 2.9x1.6mm, Pitch 0.95mm, Lead Span 2.8mm, IPC Medium Density)
footprint MF05A_L (SOT23, 5-Leads, Body 2.9x1.6mm, Pitch 0.95mm, Lead Span 2.8mm, IPC High Density)
footprint MF05A_M (SOT23, 5-Leads, Body 2.9x1.6mm, Pitch 0.95mm, Lead Span 2.8mm, IPC Low Density)
pins: 1 VIN (power), 2 GND (power), 3 EN (in), 4 FB (in), 5 SW (power)

## LM3674MFX-ADJ
designator U?
2MHz, 600mA Step-Down DC-DC Converter, 5-pin SOT-23; PartNumber: LM3674MFX-ADJ; Manufacturer: National Semiconductor; PackageTopMarking: SLTB*XTT; PowerWise: Y; CompType: MiscPower; DatasheetVersion: Sep-2006; PackageVersion: revD, Aug-2008; PackageReference: MF05A; PackageDescription: Molded SOT-23, .115 x .063 x .040 in Body, 5 Lead, .0375 in Pitch; RoHS: N; PinCount: 5; High-Reliability: Y; ComponentLink1Description: Manufacturer URL; ComponentLink1URL: http://www.national.com/; ComponentLink2Description: LM3674 Datasheet; ComponentLink2URL: http://www.national.com/ds/LM/LM3674.pdf; ComponentLink3Description: LM3674 Web Page; ComponentLink3URL: http://www.national.com/pf/LM/LM3674.html; ComponentLink4Description: MF05A Package Page; ComponentLink4URL: http://www.national.com/packaging/folders/mf05a.html
footprint MF05A_N (SOT23, 5-Leads, Body 2.9x1.6mm, Pitch 0.95mm, Lead Span 2.8mm, IPC Medium Density)
footprint MF05A_L (SOT23, 5-Leads, Body 2.9x1.6mm, Pitch 0.95mm, Lead Span 2.8mm, IPC High Density)
footprint MF05A_M (SOT23, 5-Leads, Body 2.9x1.6mm, Pitch 0.95mm, Lead Span 2.8mm, IPC Low Density)
pins: 1 VIN (power), 2 GND (power), 3 EN (in), 4 FB (in), 5 SW (power)

## LM3674MFX-ADJ/NOPB
designator U?
2MHz, 600mA Step-Down DC-DC Converter, 5-pin SOT-23, Pb-Free; PartNumber: LM3674MFX-ADJ/NOPB; Manufacturer: National Semiconductor; PackageTopMarking: SLTB*XTT; PowerWise: Y; CompType: MiscPower; DatasheetVersion: Sep-2006; PackageVersion: revD, Aug-2008; PackageReference: MF05A; PackageDescription: Molded SOT-23, .115 x .063 x .040 in Body, 5 Lead, .0375 in Pitch; RoHS: Y; PinCount: 5; High-Reliability: Y; ComponentLink1Description: Manufacturer URL; ComponentLink1URL: http://www.national.com/; ComponentLink2Description: LM3674 Datasheet; ComponentLink2URL: http://www.national.com/ds/LM/LM3674.pdf; ComponentLink3Description: LM3674 Web Page; ComponentLink3URL: http://www.national.com/pf/LM/LM3674.html; ComponentLink4Description: MF05A Package Page; ComponentLink4URL: http://www.national.com/packaging/folders/mf05a.html
footprint MF05A_N (SOT23, 5-Leads, Body 2.9x1.6mm, Pitch 0.95mm, Lead Span 2.8mm, IPC Medium Density)
footprint MF05A_L (SOT23, 5-Leads, Body 2.9x1.6mm, Pitch 0.95mm, Lead Span 2.8mm, IPC High Density)
footprint MF05A_M (SOT23, 5-Leads, Body 2.9x1.6mm, Pitch 0.95mm, Lead Span 2.8mm, IPC Low Density)
pins: 1 VIN (power), 2 GND (power), 3 EN (in), 4 FB (in), 5 SW (power)

## LM3676SD-1.5
designator U?
2MHz, 600mA Step-Down DC-DC Converter with Mode Control, 8-pin LLP; PartNumber: LM3676SD-1.5; Manufacturer: National Semiconductor; PackageTopMarking: ZXYTT*S007B; PowerWise: N; CompType: MiscPower; High-Reliability: Y; DatasheetVersion: Dec-2006; PackageVersion: revA, Aug-2003; PackageReference: SDA08A; PackageDescription: LLP, Plastic, Dual, 3 x 3 x 0.8mm Body, 8 Lead, 0.5mm Pitch, No Pullback; RoHS: N; PinCount: 8; ComponentLink1Description: Manufacturer URL; ComponentLink1URL: http://www.national.com/; ComponentLink2Description: LM3676 Datasheet; ComponentLink2URL: http://www.national.com/ds/LM/LM3676.pdf; ComponentLink3Description: LM3676 Web Page; ComponentLink3URL: http://www.national.com/pf/LM/LM3676.html; ComponentLink4Description: SDA08A Package Page; ComponentLink4URL: http://www.national.com/packaging/folders/sda08a.html
footprint SDA08A (SON, 8-Leads, Body 3x3mm, Pitch 0.5mm, NSC Recommended)
pins: 1 PGND (power), 2 SW (power), 3 MODE (in), 4 FB (in), 5 EN (in), 6 NC, 7 SGND (power), 8 VIN (power), 9 DAP (power)

## LM3676SD-1.5/NOPB
designator U?
2MHz, 600mA Step-Down DC-DC Converter with Mode Control, 8-pin LLP, Pb-Free; PartNumber: LM3676SD-1.5/NOPB; Manufacturer: National Semiconductor; PackageTopMarking: ZXYTT*S007B; PowerWise: N; CompType: MiscPower; High-Reliability: Y; DatasheetVersion: Dec-2006; PackageVersion: revA, Aug-2003; PackageReference: SDA08A; PackageDescription: LLP, Plastic, Dual, 3 x 3 x 0.8mm Body, 8 Lead, 0.5mm Pitch, No Pullback; RoHS: Y; PinCount: 8; ComponentLink1Description: Manufacturer URL; ComponentLink1URL: http://www.national.com/; ComponentLink2Description: LM3676 Datasheet; ComponentLink2URL: http://www.national.com/ds/LM/LM3676.pdf; ComponentLink3Description: LM3676 Web Page; ComponentLink3URL: http://www.national.com/pf/LM/LM3676.html; ComponentLink4Description: SDA08A Package Page; ComponentLink4URL: http://www.national.com/packaging/folders/sda08a.html
footprint SDA08A (SON, 8-Leads, Body 3x3mm, Pitch 0.5mm, NSC Recommended)
pins: 1 PGND (power), 2 SW (power), 3 MODE (in), 4 FB (in), 5 EN (in), 6 NC, 7 SGND (power), 8 VIN (power), 9 DAP (power)

## LM3676SD-1.8
designator U?
2MHz, 600mA Step-Down DC-DC Converter with Mode Control, 8-pin LLP; PartNumber: LM3676SD-1.8; Manufacturer: National Semiconductor; PackageTopMarking: ZXYTT*S009B; PowerWise: N; CompType: MiscPower; High-Reliability: Y; DatasheetVersion: Dec-2006; PackageVersion: revA, Aug-2003; PackageReference: SDA08A; PackageDescription: LLP, Plastic, Dual, 3 x 3 x 0.8mm Body, 8 Lead, 0.5mm Pitch, No Pullback; RoHS: N; PinCount: 8; ComponentLink1Description: Manufacturer URL; ComponentLink1URL: http://www.national.com/; ComponentLink2Description: LM3676 Datasheet; ComponentLink2URL: http://www.national.com/ds/LM/LM3676.pdf; ComponentLink3Description: LM3676 Web Page; ComponentLink3URL: http://www.national.com/pf/LM/LM3676.html; ComponentLink4Description: SDA08A Package Page; ComponentLink4URL: http://www.national.com/packaging/folders/sda08a.html
footprint SDA08A (SON, 8-Leads, Body 3x3mm, Pitch 0.5mm, NSC Recommended)
pins: 1 PGND (power), 2 SW (power), 3 MODE (in), 4 FB (in), 5 EN (in), 6 NC, 7 SGND (power), 8 VIN (power), 9 DAP (power)

## LM3676SD-1.8/NOPB
designator U?
2MHz, 600mA Step-Down DC-DC Converter with Mode Control, 8-pin LLP, Pb-Free; PartNumber: LM3676SD-1.8/NOPB; Manufacturer: National Semiconductor; PackageTopMarking: ZXYTT*S009B; PowerWise: N; CompType: MiscPower; High-Reliability: Y; DatasheetVersion: Dec-2006; PackageVersion: revA, Aug-2003; PackageReference: SDA08A; PackageDescription: LLP, Plastic, Dual, 3 x 3 x 0.8mm Body, 8 Lead, 0.5mm Pitch, No Pullback; RoHS: Y; PinCount: 8; ComponentLink1Description: Manufacturer URL; ComponentLink1URL: http://www.national.com/; ComponentLink2Description: LM3676 Datasheet; ComponentLink2URL: http://www.national.com/ds/LM/LM3676.pdf; ComponentLink3Description: LM3676 Web Page; ComponentLink3URL: http://www.national.com/pf/LM/LM3676.html; ComponentLink4Description: SDA08A Package Page; ComponentLink4URL: http://www.national.com/packaging/folders/sda08a.html
footprint SDA08A (SON, 8-Leads, Body 3x3mm, Pitch 0.5mm, NSC Recommended)
pins: 1 PGND (power), 2 SW (power), 3 MODE (in), 4 FB (in), 5 EN (in), 6 NC, 7 SGND (power), 8 VIN (power), 9 DAP (power)

## LM3676SD-3.3
designator U?
2MHz, 600mA Step-Down DC-DC Converter with Mode Control, 8-pin LLP; PartNumber: LM3676SD-3.3; Manufacturer: National Semiconductor; PackageTopMarking: ZXYTT*S010B; PowerWise: N; CompType: MiscPower; High-Reliability: Y; DatasheetVersion: Dec-2006; PackageVersion: revA, Aug-2003; PackageReference: SDA08A; PackageDescription: LLP, Plastic, Dual, 3 x 3 x 0.8mm Body, 8 Lead, 0.5mm Pitch, No Pullback; RoHS: N; PinCount: 8; ComponentLink1Description: Manufacturer URL; ComponentLink1URL: http://www.national.com/; ComponentLink2Description: LM3676 Datasheet; ComponentLink2URL: http://www.national.com/ds/LM/LM3676.pdf; ComponentLink3Description: LM3676 Web Page; ComponentLink3URL: http://www.national.com/pf/LM/LM3676.html; ComponentLink4Description: SDA08A Package Page; ComponentLink4URL: http://www.national.com/packaging/folders/sda08a.html
footprint SDA08A (SON, 8-Leads, Body 3x3mm, Pitch 0.5mm, NSC Recommended)
pins: 1 PGND (power), 2 SW (power), 3 MODE (in), 4 FB (in), 5 EN (in), 6 NC, 7 SGND (power), 8 VIN (power), 9 DAP (power)